# EAGLE library part 3W_AUDIO_AMP (library MTS-OTR_Custom)
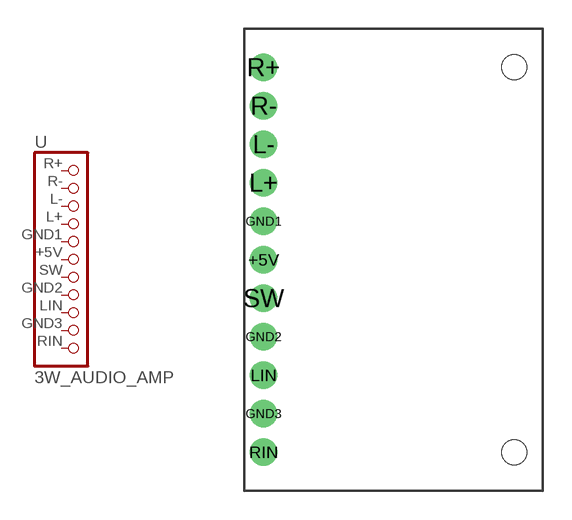
[diagram p16: symbol with the pads of 3W_AUDIO_AMP; footprint 3W_AUDIO_AMP]

Designator prefix -

## 3W_AUDIO_AMP  [3W_AUDIO_AMP]
+5V  6  pas
GND1  5  pas
GND2  8  pas
GND3  10  pas
L+  4  pas
L-  3  pas
LIN  9  pas
R+  1  pas
R-  2  pas
RIN  11  pas
SW  7  pas

## Footprint 3W_AUDIO_AMP (pad centres in mm)
drill 0.6 pad 1.422: +5V -6,0; GND1 -6,2; GND2 -6,-4; GND3 -6,-8; L+ -6,4; L- -6,6; LIN -6,-6; R+ -6,10; R- -6,8; RIN -6,-10; SW -6,-2
hole 1.3 at 7,-10
hole 1.3 at 7,10